# Altium footprint library switch.PcbLib: 44 footprints (part 3 of 3)
Each footprint in its own frame and in the unit in brackets; x right, y up, seen from the top. Pads: shape width x height; smd on the part's side, far side on the other; paste and mask are expansions set on the pad; w line width, h text height; cw(c..) or ccw(c..) is an arc to the next point about the centre after c.
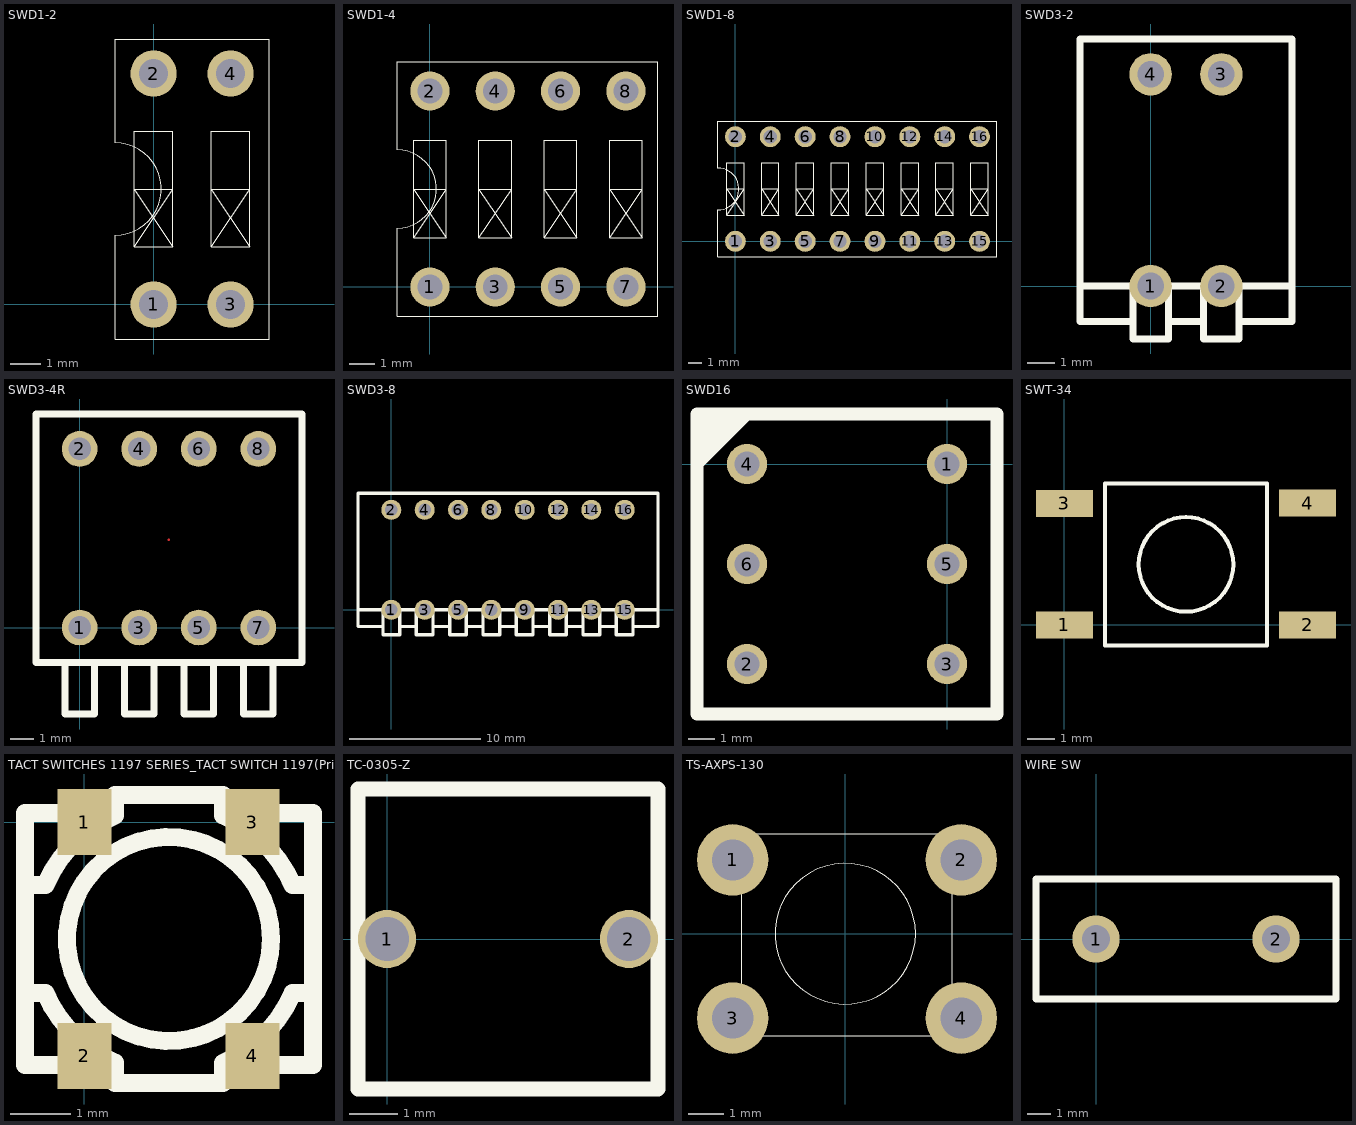
[diagram p2: the footprints below, top view; thin cyan lines are the x and y axes]

## SWD1-2 [mil]
pads (4):
  round 60 hole 38: 1(0,0) 2(0,300) 3(100,0) 4(100,300)
Top Overlay:
  lines w0.98: -50,-44.88 150,-44.88 150,344.88 -50,344.88 -50,210 cw(c-50,150) -50,90 -50,-44.88
  lines w1: -25,75 -25,225 25,225 25,75 ; -25,75 25,150 -25,150 25,75 ; -25,75 25,75 ; 75,75 125,150 75,150 125,75 ; 75,75 125,75 ; 75,75 75,225 125,225 125,75
3D body "User Library-DIP-Switch.step": height 275.59, standoff -145.67, extent -69.68,-44.88 169.69,344.88

## SWD1-4 [mil]
pads (8):
  round 60 hole 38: 1(0,0) 2(0,300) 3(100,0) 4(100,300) 5(200,0) 6(200,300) 7(300,0) 8(300,300)
Top Overlay:
  lines w0.98: -50,-44.88 349.21,-44.88 349.21,344.88 -50,344.88 -50,210 cw(c-50,150) -50,90 -50,-44.88
  lines w1: -25,75 -25,225 25,225 25,75 ; -25,75 25,150 -25,150 25,75 ; -25,75 25,75 ; 75,75 125,150 75,150 125,75 ; 75,75 125,75 ; 75,75 75,225 125,225 125,75 ; 175,75 175,225 225,225 225,75 ; 175,75 225,150 175,150 225,75 ; 175,75 225,75 ; 275,75 275,225 325,225 325,75 ; 275,75 325,150 275,150 325,75 ; 275,75 325,75

## SWD1-8 [mil]
pads (16):
  round 60 hole 38: 1(0,0) 2(0,300) 3(100,0) 4(100,300) 5(200,0) 6(200,300) 7(300,0) 8(300,300) 9(400,0) 10(400,300) 11(500,0) 12(500,300) 13(600,0) 14(600,300) 15(700,0) 16(700,300)
Top Overlay:
  lines w0.98: -50,-44.88 -50,90 ccw(c-50,150) -50,210 -50,344.88 750,344.88 750,-44.88 -50,-44.88
  lines w1: -25,75 25,75 ; -25,75 -25,225 25,225 25,75 ; -25,75 25,150 -25,150 25,75 ; 75,75 125,75 ; 75,75 75,225 125,225 125,75 ; 75,75 125,150 75,150 125,75 ; 175,75 225,75 ; 175,75 175,225 225,225 225,75 ; 175,75 225,150 175,150 225,75 ; 275,75 325,75 ; 275,75 275,225 325,225 325,75 ; 275,75 325,150 275,150 325,75 ; 375,75 425,75 ; 375,75 375,225 425,225 425,75 ; 375,75 425,150 375,150 425,75 ; 475,75 525,75 ; 475,75 475,225 525,225 525,75 ; 475,75 525,150 475,150 525,75 ; 575,75 625,75 ; 575,75 575,225 625,225 625,75 ; 575,75 625,150 575,150 625,75 ; 675,75 725,75 ; 675,75 675,225 725,225 725,75 ; 675,75 725,150 675,150 725,75

## SWD3-2 [mil]
pads (4):
  round 60 hole 38: 1(0,0) 2(100,0) 3(100,300) 4(0,300)
Top Overlay:
  lines w10: -100,0 200,0 ; -25,-50 -100,-50 -100,350 200,350 200,-50 125,-50 ; -25,0 -25,-75 25,-75 25,0 ; 25,-50 75,-50 ; 75,0 75,-75 125,-75 125,0

## SWD3-4R [mil]
pads (8):
  round 60 hole 38: 1(0,0) 2(0,300) 3(100,0) 4(100,300) 5(200,0) 6(200,300) 7(300,0) 8(300,300)
Top Layer:
  lines w3.94: 149.61,147.24 150,147.64
Top Overlay:
  lines w11.81: -25,-58.66 -25,-145.28 25,-145.28 25,-58.66 ; 75,-58.66 75,-145.28 125,-145.28 125,-58.66 ; 175,-58.66 175,-145.28 225,-145.28 225,-58.66 ; 275,-58.66 275,-145.28 325,-145.28 325,-58.66 ; -73.23,-58.66 373.23,-58.66 373.23,358.66 -73.23,358.66 -73.23,-58.66

## SWD3-8 [mil]
pads (16):
  round 60 hole 38: 1(0,0) 2(0,300) 3(100,0) 4(100,300) 5(200,0) 6(200,300) 7(300,0) 8(300,300) 9(400,0) 10(400,300) 11(500,0) 12(500,300) 13(600,0) 14(600,300) 15(700,0) 16(700,300)
Top Overlay:
  lines w10: -100,0 800,0 ; -25,-50 -100,-50 -100,350 800,350 800,-50 725,-50 ; -25,0 -25,-75 25,-75 25,0 ; 25,-50 75,-50 ; 75,0 75,-75 125,-75 125,0 ; 125,-50 175,-50 ; 175,0 175,-75 225,-75 225,0 ; 225,-50 275,-50 ; 275,0 275,-75 325,-75 325,0 ; 325,-50 375,-50 ; 375,0 375,-75 425,-75 425,0 ; 425,-50 475,-50 ; 475,0 475,-75 525,-75 525,0 ; 525,-50 575,-50 ; 575,0 575,-75 625,-75 625,0 ; 625,-50 675,-50 ; 675,0 675,-75 725,-75 725,0

## SWD16 [mil]
pads (6):
  round 60 hole 38: 1(0,0) 2(-300,-300) 3(0,-300) 4(-300,0) 5(0,-150) 6(-300,-150)
Top Overlay:
  lines w19.68: -375,0 -300,75 ; -375,25 -325,75 ; -375,50 -350,75 ; -375,-375 75,-375 75,75 -375,75 -375,-375

## SWT-34 [mm]
pads (4):
  rect 2.1x1 smd: 1(0,0) 2(9,0) 3(0,4.5) 4(9,4.51)
Top Overlay:
  circle w0.15: c4.5,2.24 r1.75
  lines w0.15: 1.5,-0.76 1.5,5.24 7.5,5.24 7.5,-0.76 1.5,-0.76

## TACT SWITCHES 1197 SERIES_TACT SWITCH 1197(Primary) [mm]
pads (4):
  rect 0.9x1.1 smd: 1(0,0) 2(0,-3.9) 3(2.8,0) 4(2.8,-3.9)
Top Overlay:
  circle w0.3: c1.41,-1.95 r1.7
  lines w0.3: -0.654,-2.848 ccw(c1.41,-1.95) 0.509,-4.012 ; -0.652,-2.85 -0.99,-2.85 ; -0.652,-1.05 -0.99,-1.05 ; -0.652,-1.05 cw(c1.41,-1.95) 0.513,0.113 ; 0.51,-4.013 0.51,-4.05 ; 0.51,0.112 0.51,0.15 ; 2.307,-4.014 ccw(c1.41,-1.95) 3.472,-2.851 ; 2.31,-4.013 2.31,-4.05 ; 3.472,-2.85 3.81,-2.85 ; 3.472,-1.05 3.81,-1.05 ; 3.473,-1.053 ccw(c1.41,-1.95) 2.311,0.111 2.31,0.15 ; -0.99,-2.85 -0.99,-4.05 0.51,-4.05 ; -0.99,-2.85 -0.99,-1.05 ; -0.99,-1.05 -0.99,0.15 0.51,0.15 ; 0.51,-4.05 0.51,-4.35 2.31,-4.35 2.31,-4.05 ; 0.51,0.15 0.51,0.45 2.31,0.45 2.31,0.15 ; 2.31,-4.05 3.81,-4.05 3.81,-2.85 ; 2.31,0.15 3.81,0.15 3.81,-1.05 ; 3.81,-2.85 3.81,-1.05

## TC-0305-Z [mm]
pads (2):
  round 1.2 hole 0.9: 1(0,0) 2(5,0)
Top Overlay:
  lines w0.3: -0.6,-3.1 -0.6,3.1 5.6,3.1 5.6,-3.1 -0.6,-3.1

## TS-AXPS-130 [mil]
pads (4):
  round 80 hole 46: 1(-125.98,82.69) 2(129.93,82.69) 3(-125.98,-94.48) 4(129.93,-94.48)
Top Overlay:
  circle w1: c0.01,0.01 r78.74
  lines w1: -116.13,-114.17 120.09,-114.17 120.09,112.21 -116.13,112.21 -116.13,-114.17
3D body "TS-A2PS-130.stp": height 196.85, standoff -137.8, extent -155.58,-122.44 155.44,121.65

## WIRE SW [mm]
pads (2):
  round 2 hole 1.2: 1(0,0) 2(7.62,0)
Top Overlay:
  lines w0.3: -2.54,-2.54 -2.54,2.54 10.16,2.54 10.16,-2.54 -2.54,-2.54